# Altium footprint library cricket-node-hw__B.PcbLib: 47 footprints (part 3 of 3)
Each footprint in its own frame and in the unit in brackets; x right, y up, seen from the top. Pads: shape width x height; smd on the part's side, far side on the other; paste and mask are expansions set on the pad; w line width, h text height; cw(c..) or ccw(c..) is an arc to the next point about the centre after c.
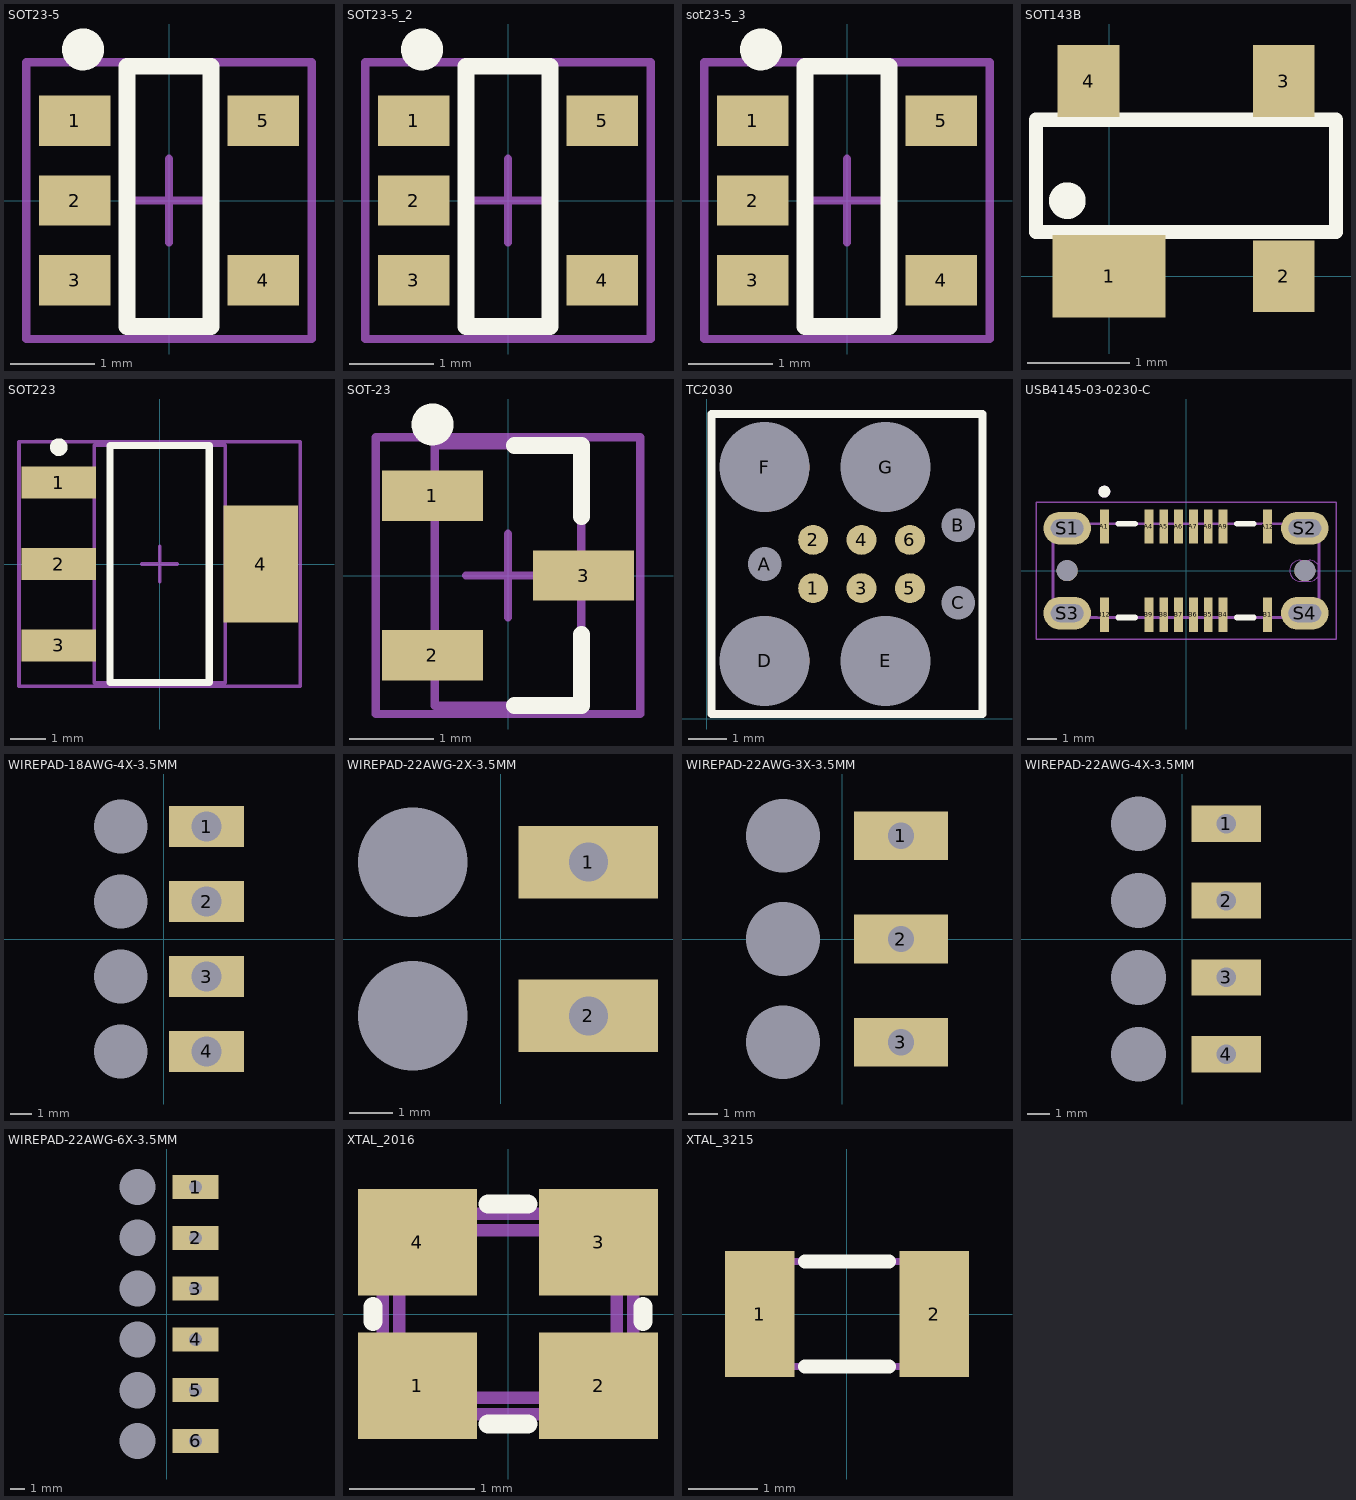
[diagram p2: the footprints below, top view; thin cyan lines are the x and y axes]

## SOT23-5 [mm] "SOT23, 5-Leads, Body 3.1x2.6mm (max), Pitch 0.95mm, IPC High Density"
height 1.45
pads (5):
  rect 0.85x0.6 smd: 1(-1.125,0.95) 2(-1.125,0) 3(-1.125,-0.95) 4(1.125,-0.95) 5(1.125,0.95)
Top Overlay:
  circle w0.25: c-1.025,1.8 r0.125
  lines w0.2: -0.5,-1.5 0.5,-1.5 0.5,1.6 -0.5,1.6 -0.5,-1.5
Mechanical 15:
  lines w0.1: -0.5,0 0.5,0 ; 0,-0.5 0,0.5 ; -1.7,-1.65 -1.7,1.65 1.7,1.65 1.7,-1.65 -1.7,-1.65
3D body "ct-sot-23-5.stp": height 1.15, standoff -0.03, extent -1.379,-1.45 1.321,1.45

## SOT23-5_2 [mm]
pads (5):
  rect 0.85x0.6 smd: 1(-1.125,0.95) 2(-1.125,0) 3(-1.125,-0.95) 4(1.125,-0.95) 5(1.125,0.95)
Top Overlay:
  circle w0.25: c-1.025,1.8 r0.125
  lines w0.2: -0.5,-1.5 0.5,-1.5 0.5,1.6 -0.5,1.6 -0.5,-1.5
Mechanical 15:
  lines w0.1: -0.5,0 0.5,0 ; 0,-0.5 0,0.5 ; -1.7,-1.65 -1.7,1.65 1.7,1.65 1.7,-1.65 -1.7,-1.65
3D body "ct-sot-23-5.stp": height 1.15, standoff -0.03, extent -1.379,-1.45 1.321,1.45

## sot23-5_3 [mm]
pads (5):
  rect 0.85x0.6 smd: 1(-1.125,0.95) 2(-1.125,0) 3(-1.125,-0.95) 4(1.125,-0.95) 5(1.125,0.95)
Top Overlay:
  circle w0.25: c-1.025,1.8 r0.125
  lines w0.2: -0.5,-1.5 -0.5,1.6 0.5,1.6 0.5,-1.5 -0.5,-1.5
Mechanical 15:
  lines w0.1: -0.5,0 0.5,0 ; 0,-0.5 0,0.5 ; -1.7,-1.65 1.7,-1.65 1.7,1.65 -1.7,1.65 -1.7,-1.65
3D body "ct-sot-23-5.stp": height 1.15, standoff -0.03, extent -1.379,-1.45 1.321,1.45

## SOT143B [mm] "SOT143B"
height 1.1
pads (4):
  rect 1.1x0.8 smd: 1(0,0)
  rect 0.6x0.7 smd: 2(1.702,0) 3(1.702,1.9) 4(-0.2,1.9)
Top Overlay:
  circle w0.254: c-0.406,0.737 r0.051
  lines w0.14: -0.711,0.432 2.21,0.432 2.21,1.524 -0.711,1.524 -0.711,0.432
3D body "User Library-sot143.step": height 1, standoff 0, extent -0.698,-0.27 2.222,2.15

## SOT223 [mm] "SOT223, 4-Leads, Body 6.7x7.3mm (max), Pitch 2.30mm, IPC High Density"
height 1.8
pads (4):
  rect 2.1x0.9 smd: 1(-2.85,2.3) 2(-2.85,0) 3(-2.85,-2.3)
  rect 2.1x3.3 smd: 4(2.85,0)
Top Overlay:
  circle w0.25: c-2.85,3.3 r0.125
  lines w0.2: -1.4,-3.35 1.4,-3.35 1.4,3.35 -1.4,3.35 -1.4,-3.35
Mechanical 13:
  lines w0.1: -1.85,-3.35 1.85,-3.35 1.85,3.35 -1.85,3.35 -1.85,-3.35
Mechanical 15:
  lines w0.1: -0.5,0 0.5,0 ; 0,-0.5 0,0.5 ; -3.975,-3.45 3.975,-3.45 3.975,3.45 -3.975,3.45 -3.975,-3.45
3D body "sot223.stp": height 1.75, standoff -0.05, extent -3.541,-3.347 3.759,3.353

## SOT-23 [mm] "SOT-23"
height 1.6
pads (3):
  rect 1.2x0.6 smd: 1(-0.9,0.95) 2(-0.9,-0.95) 3(0.9,0)
Top Overlay:
  circle w0.25: c-0.9,1.8 r0.125
  lines w0.2: 0.075,-1.55 0.875,-1.55 0.875,-0.7 ; 0.075,1.55 0.875,1.55 0.875,0.7
Mechanical 13:
  lines w0.1: -0.875,-1.55 -0.875,1.55 0.875,1.55 0.875,-1.55 -0.875,-1.55
Mechanical 15:
  lines w0.1: -0.5,0 0.5,0 ; 0,-0.5 0,0.5 ; -1.575,-1.65 -1.575,1.65 1.575,1.65 1.575,-1.65 -1.575,-1.65
3D body "SW3DPS-SOT-23-DEFAULT.STEP": height 1.07, standoff -0.03, extent -1.27,-1.5 1.23,1.5

## TC2030 [mil] "TC2030-MCP"
height 62.99
pads (13):
  round 31 smd paste-40: 1(110,135) 2(110,185) 3(160,135) 4(160,185) 5(210,135) 6(210,185)
  round 34 hole 35 unplated: A(60,160) B(260,200) C(260,120)
  round 92 hole 93 unplated: D(60,60) E(185,60) F(60,260) G(185,260)
Top Overlay:
  lines w7.87: 5,5 5,315 285,315 285,5 5,5
Mechanical 1:
  circle w10: c60,260 r36.06

## USB4145-03-0230-C [mm]
height 7.66
pads (22):
  rect 0.3x1.15 smd: A1(-2.75,1.485) A4(-1.25,1.485) A5(-0.75,1.485) A6(-0.25,1.485) A7(0.25,1.485) A8(0.75,1.485) A9(1.25,1.485) A12(2.75,1.485) B1(2.75,-1.485) B4(1.25,-1.485) B5(0.75,-1.485) B6(0.25,-1.485) B7(-0.25,-1.485) B8(-0.75,-1.485) B9(-1.25,-1.485) B12(-2.75,-1.485)
  oval 1.6x1.1 hole 0.6 slot 1.1 at 0 deg: S1(-4,1.43) S2(4,1.43) S3(-4,-1.43) S4(4,-1.43)
  round 0.71 hole 0.71 unplated: ""(-4,0) ""(4,0)
Top Overlay:
  circle w0.2: c-2.75,2.66 r0.1
  lines w0.2: -2.28,-1.58 -1.72,-1.58 ; -2.28,1.58 -1.72,1.58 ; 1.72,-1.58 2.28,-1.58 ; 1.72,1.58 2.28,1.58
Mechanical 1:
  lines w0: 3.495,0 ccw(c3.85,0) 3.85,-0.355 4.15,-0.355 ccw(c4.15,0) 4.505,0 ccw(c4.15,0) 4.15,0.355 3.85,0.355 ccw(c3.85,0) 3.495,0
Mechanical 13:
  circle w0.2: c-2.75,2.66 r0.1
  lines w0.1: -4.47,-1.58 -4.47,1.58 4.47,1.58 4.47,-1.58 -4.47,-1.58
Mechanical 15:
  lines w0.05: -5.05,-2.31 -5.05,2.31 5.05,2.31 5.05,-2.31 -5.05,-2.31
3D body "USB4145-03-0070-C.stp": height 7.46, standoff -0.7, extent -4.475,-1.856 4.47,1.834

## WIREPAD-18AWG-4X-3.5MM [mm]
pads (8):
  rect 3.5x1.905 hole 1.397: 1(2,5.25) 2(2,1.75) 3(2,-1.75) 4(2,-5.25)
  rect 0x0 hole 2.5 unplated: M2(-2,-5.25) M2(-2,-1.75) M2(-2,1.75) M2(-2,5.25)

## WIREPAD-22AWG-2X-3.5MM [mm]
pads (4):
  rect 3.175x1.651 hole 0.889: 1(2,1.75) 2(2,-1.75)
  rect 0x0 hole 2.5 unplated: q(-2,-1.75) q(-2,1.75)

## WIREPAD-22AWG-3X-3.5MM [mm]
pads (6):
  rect 3.175x1.651 hole 0.889: 1(2,3.5) 2(2,0) 3(2,-3.5)
  rect 0x0 hole 2.5 unplated: q(-2,-3.5) q(-2,0) q(-2,3.5)

## WIREPAD-22AWG-4X-3.5MM [mm]
height 1.6
pads (8):
  rect 3.175x1.651 hole 0.889: 1(2,5.25) 2(2,1.75) 3(2,-1.75) 4(2,-5.25)
  rect 0x0 hole 2.5 unplated: M2(-2,-5.25) M2(-2,-1.75) M2(-2,1.75) M2(-2,5.25)

## WIREPAD-22AWG-6X-3.5MM [mm]
height 1.6
pads (12):
  rect 3.175x1.651 hole 0.889: 1(2,8.75) 2(2,5.25) 3(2,1.75) 4(2,-1.75) 5(2,-5.25) 6(2,-8.75)
  rect 0x0 hole 2.5 unplated: M2(-2,-8.75) M2(-2,-5.25) M2(-2,-1.75) M2(-2,1.75) M2(-2,5.25) M2(-2,8.75)

## XTAL_2016 [mm] "Crystal 2.0 x 1.6 mm"
height 0.5
pads (4):
  rect 0.95x0.85 smd: 1(-0.725,-0.575) 2(0.725,-0.575) 3(0.725,0.575) 4(-0.725,0.575)
Top Overlay:
  lines w0.152: -1.08,-0.06 -1.08,0.06 ; -0.16,-0.88 0.16,-0.88 ; -0.16,0.88 0.16,0.88 ; 1.08,-0.06 1.08,0.06
Mechanical 7:
  lines w0.1: -1,-0.7 cw(c-1,-0.8) -0.9,-0.8 0.9,-0.8 cw(c1,-0.8) 1,-0.7 1,0.7 cw(c1,0.8) 0.9,0.8 -0.9,0.8 cw(c-1,0.8) -1,0.7 -1,-0.7 ; -0.87,-0.57 ccw(c-0.77,-0.57) -0.77,-0.67 0.77,-0.67 ccw(c0.77,-0.57) 0.87,-0.57 0.87,0.57 ccw(c0.77,0.57) 0.77,0.67 -0.77,0.67 ccw(c-0.77,0.57) -0.87,0.57 -0.87,-0.57
  text ".Designator" at 1.524,0.102 h0.3
3D body: height 0.56, standoff 0.15, extent -0.7,-0.65 0.7,0.65
3D body "User Library-GeyerElectronics_KX5.step": height 0.56, standoff 0, extent -1.05,-0.85 1.05,0.85

## XTAL_3215 [mm] "XTAL SMD 3.2 x 1.5 mm"
height 0.8
pads (2):
  rect 1x1.8 smd: 1(-1.25,0) 2(1.25,0)
Top Overlay:
  lines w0.2: -0.6,-0.75 0.6,-0.75 ; -0.6,0.75 0.6,0.75
Mechanical 7:
  lines w0.1: -1.6,-0.75 -1.6,0.75 1.6,0.75 1.6,-0.75 -1.6,-0.75
Mechanical 15:
  lines w0.1: -1.6,-0.55 cw(c-1.6,-0.75) -1.4,-0.75 1.4,-0.75 cw(c1.6,-0.75) 1.6,-0.55 1.6,0.55 cw(c1.6,0.75) 1.4,0.75 -1.4,0.75 cw(c-1.6,0.75) -1.6,0.55 -1.6,-0.55
3D body: height 0.81, standoff 0.15, extent -1.2,-0.6 1.2,0.6
3D body "User Library-Siward_SX3215.step": height 0.81, standoff 0, extent -1.6,-0.75 1.6,0.75